# Altium footprint library OledClock.PcbLib: 22 footprints (part 2 of 2)
Each footprint in its own frame and in the unit in brackets; x right, y up, seen from the top. Pads: shape width x height; smd on the part's side, far side on the other; paste and mask are expansions set on the pad; w line width, h text height; cw(c..) or ccw(c..) is an arc to the next point about the centre after c.
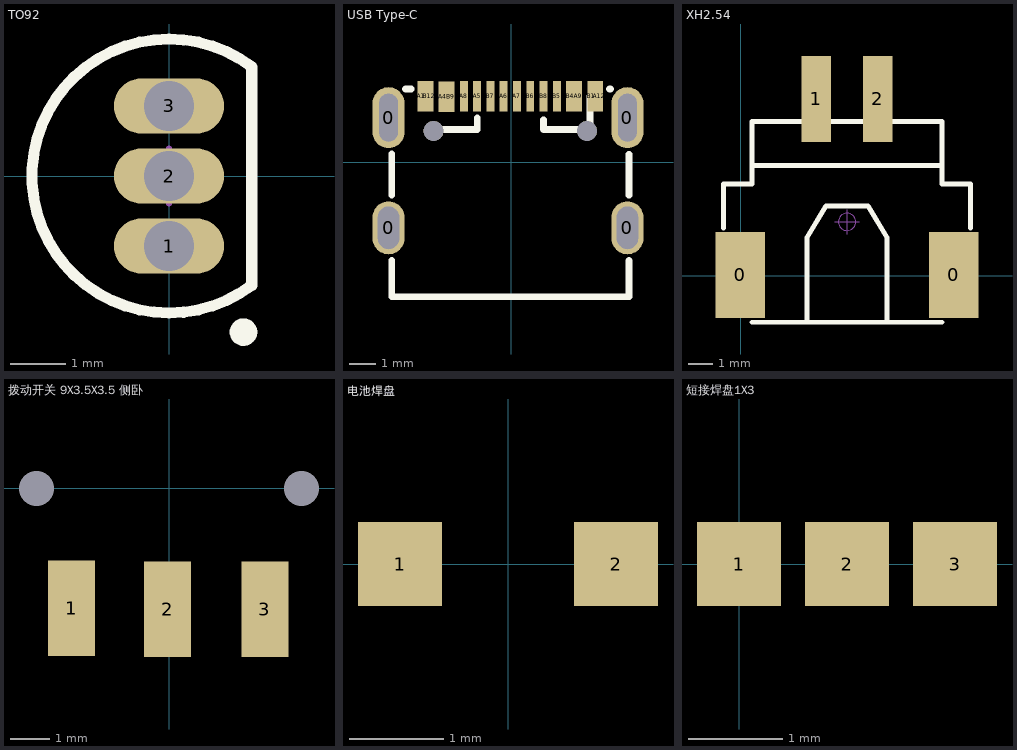
[diagram p1: the footprints below, top view; thin cyan lines are the x and y axes]

## TO92 [mm]
pads (3):
  oval 2x1 hole 0.9: 1(0,-1.27) 2(0,0) 3(0,1.27)
Top Overlay:
  circle w0.25: c1.35,-2.83 r0.125
  lines w0.2: 1.5,-1.981 1.5,1.956 ; 1.5,-1.98 cw(c0,0) 1.5,1.98
Mechanical 13:
  lines w0.1: 1.5,-1.98 1.5,1.98
Mechanical 15:
  lines w0.1: -0.5,0 0.5,0 ; 0,-0.5 0,0.5
3D body "TO-92-2.STEP": height 8.09, standoff -6.11, extent -2.318,-2.45 1.682,2.349

## USB Type-C [mm]
pads (22):
  oval 1.2x2 hole 0.8 slot 1.6 at 90 deg: 0(-4.627,-2.475) 0(4.373,-2.475)
  oval 1.2x2.3 hole 0.7 slot 1.8 at 90 deg: 0(-4.627,1.675) 0(4.373,1.675)
  rect 0.3x1.15 smd: A1(-3.39,2.473) A4(-2.589,2.471) A5(-1.289,2.475) A6(-0.289,2.475) A7(0.21,2.473) A9(2.511,2.475) A12(3.311,2.475) B1(3.011,2.475) B4(2.21,2.475) B5(1.711,2.475) B6(0.711,2.475) B7(-0.79,2.473) B9(-2.289,2.471) B12(-3.09,2.473)
  rect 0.3x1.148 smd: A8(-1.79,2.475) B8(1.21,2.475)
  round 0.75 hole 0.75 unplated: ""(-2.93,1.175) ""(2.851,1.175)
Top Overlay:
  lines w0.254: -4.509,-3.698 -4.509,-5.075 4.43,-5.075 4.43,-3.704 ; -4.509,-1.252 -4.509,0.302 ; -3.983,2.75 -3.771,2.75 ; -3.039,1.225 -1.289,1.225 -1.289,1.669 ; 1.208,1.599 1.208,1.228 2.958,1.228 2.958,2.478 ; 3.692,2.75 3.729,2.75 ; 4.43,-1.246 4.43,0.296
3D body "USB Type-C_A.STEP": height 3.25, standoff -0.85, extent -4.47,-5.14 4.47,2.76

## XH2.54 [mm]
pads (4):
  rect 2x3.5 smd: 0(-0.025,0.025) 0(8.629,0.025)
  rect 1.2x3.5 smd: 1(3.052,7.156) 2(5.552,7.156)
Top Overlay:
  lines w0.2: -0.698,1.921 -0.698,3.711 0.452,3.711 0.452,6.239 8.152,6.239 8.152,3.711 9.302,3.711 9.302,1.921 ; 0.452,-1.889 8.152,-1.889 ; 0.452,4.461 8.152,4.461 ; 2.682,-1.889 2.682,1.541 3.444,2.811 3.952,2.811 5.16,2.811 5.922,1.541 5.922,-1.889
Mechanical 15:
  circle w0.05: c4.302,2.175 r0.35
  lines w0.05: 3.802,2.175 4.802,2.175 ; 4.302,1.675 4.302,2.675
3D body "XH2.54-WS-2P.STEP": height 6.05, standoff -0.01, extent -0.698,-1.825 9.302,8.594

## 拨动开关 9X3.5X3.5 侧卧 [mm]
pads (5):
  round 0 hole 0.9: 0(-3.4,0) 0(3.4,0)
  rect 1.2x2.45 smd: 1(-2.5,-3.075) 2(-0.036,-3.102) 3(2.464,-3.102)

## 电池焊盘 [mil]
pads (2):
  rect 35x35 smd mask+0: 1(-45,0) 2(45,0)

## 短接焊盘1X3 [mil]
pads (3):
  rect 35x35 smd mask+0: 1(0,0) 2(45,0) 3(90,0)